# Altium footprint library Pheonix_Header_4X2_pin.PcbLib: 1 footprints
Each footprint in its own frame and in the unit in brackets; x right, y up, seen from the top. Pads: shape width x height; smd on the part's side, far side on the other; paste and mask are expansions set on the pad; w line width, h text height; cw(c..) or ccw(c..) is an arc to the next point about the centre after c.
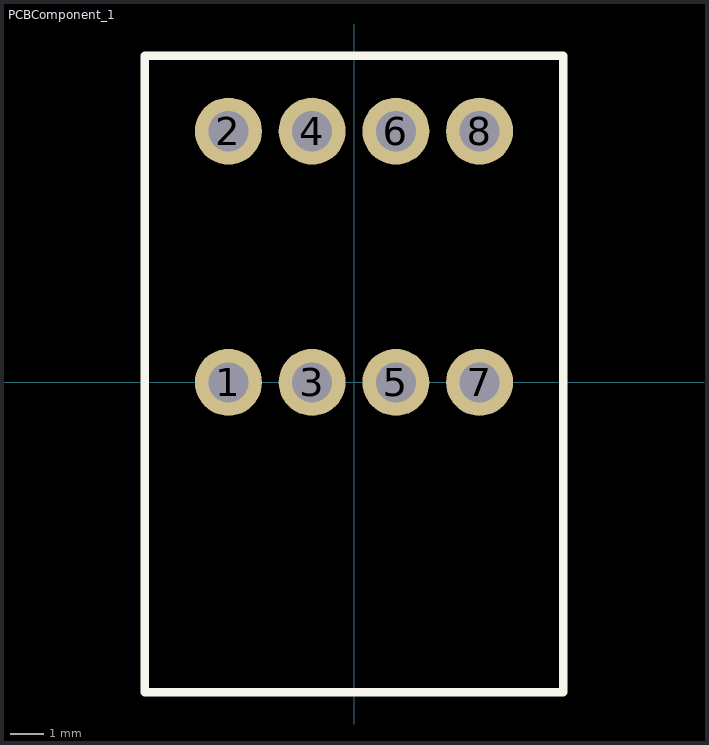
[diagram p0: the footprint, top view; thin cyan lines are the x and y axes]

## PCBComponent_1 [mm]
pads (8):
  round 2 hole 1.2: 1(-3.75,0) 2(-3.75,7.5) 3(-1.25,0) 4(-1.25,7.5) 5(1.25,0) 6(1.25,7.5) 7(3.75,0) 8(3.75,7.5)
Top Overlay:
  lines w0.254: -6.25,-9.25 -6.25,9.75 6.25,9.75 6.25,-9.25 -6.25,-9.25